# Altium schematic symbol library MIC5201-3.3YS.SchLib: 1 symbol
Pins are listed as number, name and electrical type; pins without a type are passive.

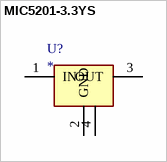
[diagram p0: symbol MIC5201-3.3YS]

## MIC5201-3.3YS
designator U?
datasheet: https://www.mouser.es/datasheet/2/268/MIC5201_150mA_Low_Dropout_Regulator_DS20005718C-2301111.pdf; ComponentLink1Description: mouser; ComponentLink1URL: https://www.mouser.es/ProductDetail/Microchip-Technology-Micrel/MIC5201-33YS?qs=kh6iOki%2FeLH4rNNBkpNw4A%3D%3D
footprint SOT-223-3
pins: 1 IN, 2 GND, 3 OUT, 4 GND_2